# Altium footprint library DI_LED_1206.PcbLib: 2 footprints
Each footprint in its own frame and in the unit in brackets; x right, y up, seen from the top. Pads: shape width x height; smd on the part's side, far side on the other; paste and mask are expansions set on the pad; w line width, h text height; cw(c..) or ccw(c..) is an arc to the next point about the centre after c.
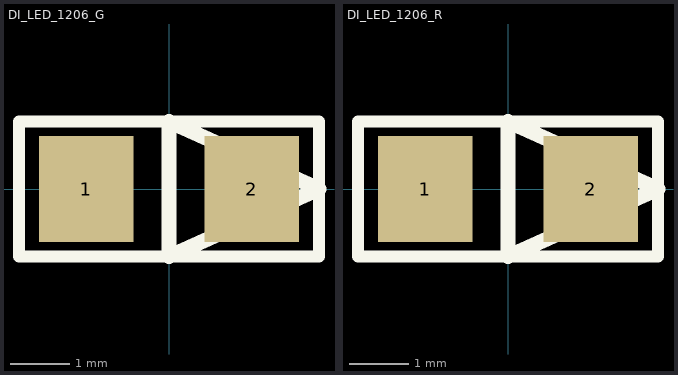
[diagram p0: the footprints below, top view; thin cyan lines are the x and y axes]

## DI_LED_1206_G [mm]
height 1.5
pads (2):
  rect 1.6x1.8 smd: 1(-1.4,0) 2(1.4,0)
Top Overlay:
  lines w0.2: -2.54,-1.143 -2.54,1.143 2.54,1.143 2.54,-1.143 -2.54,-1.143
  lines w0.254: 0,-1.143 2.54,0 0,1.143 0,-1.143
3D body: height 1.11, standoff -0.4, extent -1.6,-0.787 1.6,0.813

## DI_LED_1206_R [mm]
height 1.5
pads (2):
  rect 1.6x1.8 smd: 1(-1.4,0) 2(1.4,0)
Top Overlay:
  lines w0.2: -2.54,-1.143 -2.54,1.143 2.54,1.143 2.54,-1.143 -2.54,-1.143
  lines w0.254: 0,-1.143 2.54,0 0,1.143 0,-1.143
3D body: height 1.11, standoff -0.4, extent -1.6,-0.838 1.6,0.762